# EAGLE library part 87264-16 (library con-molex-milli-grid)
RECEPTACAL
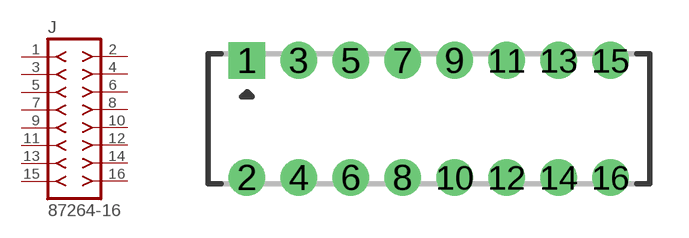
[diagram p209: symbol with the pads of 87264-16; footprint 87264-16]

Designator prefix J

## 87264-16  [87264-16]
1  1  pas
2  2  pas
3  3  pas
4  4  pas
5  5  pas
6  6  pas
7  7  pas
8  8  pas
9  9  pas
10  10  pas
11  11  pas
12  12  pas
13  13  pas
14  14  pas
15  15  pas
16  16  pas

## Footprint 87264-16 (pad centres in mm)
RECEPTACAL Dual Row, Side Entry
drill 0.914 square: 1 -7,2.25
drill 0.914: 2 -7,-2.25; 3 -5,2.25; 4 -5,-2.25; 5 -3,2.25; 6 -3,-2.25; 7 -1,2.25; 8 -1,-2.25; 9 1,2.25; 10 1,-2.25; 11 3,2.25; 12 3,-2.25; 13 5,2.25; 14 5,-2.25; 15 7,2.25; 16 7,-2.25